# Altium footprint library Components - 22.05.24 - 13.34.PcbLib: 1 footprints
Each footprint in its own frame and in the unit in brackets; x right, y up, seen from the top. Pads: shape width x height; smd on the part's side, far side on the other; paste and mask are expansions set on the pad; w line width, h text height; cw(c..) or ccw(c..) is an arc to the next point about the centre after c.
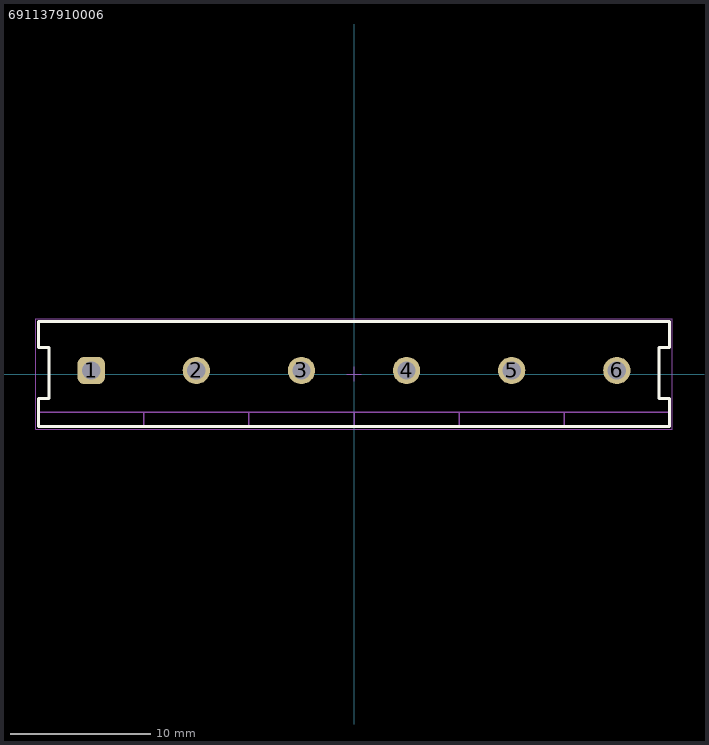
[diagram p0: the footprint, top view; thin cyan lines are the x and y axes]

## 691137910006 [mm] "Horizontal Cable Entry with Pressure Clamp, pitch 7.5mm, 06p"
height 11.5
pads (6):
  rrect50% 1.95x1.95 hole 1.3: 1(-18.75,0.25)
  round 1.95 hole 1.3: 2(-11.25,0.25) 3(-3.75,0.25) 4(3.75,0.25) 5(11.25,0.25) 6(18.75,0.25)
Top Overlay:
  lines w0.2: -22.5,-3.75 22.5,-3.75 22.5,-1.74 21.75,-1.74 21.75,1.9 22.5,1.9 22.5,3.75 -22.5,3.75 -22.5,1.9 -21.75,1.9 -21.75,-1.74 -22.5,-1.74 -22.5,-3.75
Top Designator:
  text ".Designator" at -7.498,-0.5 h1.5
Top Component Outline:
  lines w0.1: -22.5,-2.745 22.5,-2.745 ; -15,-3.75 -15,-2.75 ; -7.5,-3.75 -7.5,-2.75 ; 0,-3.75 0,-2.75 ; 7.5,-3.75 7.5,-2.75 ; 15,-3.75 15,-2.75 ; -22.5,-3.75 -22.5,-1.74 -21.75,-1.74 -21.75,1.9 -22.5,1.9 -22.5,3.75 22.5,3.75 22.5,1.9 21.75,1.9 21.75,-1.74 22.5,-1.74 22.5,-3.75 -22.5,-3.75
Top 3D Body:
  lines w0.1: -22.5,-2.745 22.5,-2.745 ; -15,-3.75 -15,-2.75 ; -7.5,-3.75 -7.5,-2.75 ; 0,-3.75 0,-2.75 ; 7.5,-3.75 7.5,-2.75 ; 15,-3.75 15,-2.75 ; -22.5,-3.75 22.5,-3.75 22.5,-1.74 21.75,-1.74 21.75,1.9 22.5,1.9 22.5,3.75 -22.5,3.75 -22.5,1.9 -21.75,1.9 -21.75,-1.74 -22.5,-1.74 -22.5,-3.75
Top Courtyard:
  lines w0.05: -22.7,-3.95 22.7,-3.95 22.7,3.95 -22.7,3.95 -22.7,-3.95
Top Component Center:
  lines w0.05: -0.5,0 0.5,0 ; 0,-0.5 0,0.5
3D body "691137910006.stp": height 11.52, standoff -3.58, extent -22.5,-3.75 22.5,3.75